# EAGLE library part ATTINY84A-AEGAEON (library Railstars)
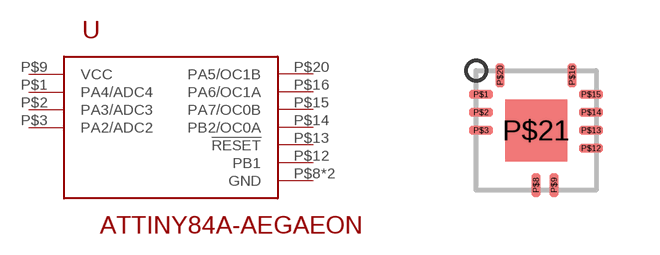
[diagram p36: symbol with the pads of VQFN-20-AEGAEON; footprint VQFN-20-AEGAEON]

Designator prefix -

## ATTINY84A-AEGAEON  [VQFN-20-AEGAEON]
P$1  PA4/ADC4
P$2  PA3/ADC3
P$3  PA2/ADC2
P$8  GND
P$9  VCC
P$12  PB1
P$13  !RESET
P$14  PB2/OC0A
P$15  PA7/OC0B
P$16  PA6/OC1A
P$20  PA5/OC1B
P$21  GND

## Footprint VQFN-20-AEGAEON (pad centres in mm)
smd 0.6 x 0.22: P$1 -1.375,0.9; P$2 -1.375,0.45; P$3 -1.375,0; P$12 1.375,-0.45; P$13 1.375,0; P$14 1.375,0.45; P$15 1.375,0.9
smd 0.22 x 0.6: P$8 0,-1.375; P$9 0.45,-1.375; P$16 0.9,1.375; P$20 -0.9,1.375
smd 1.55 x 1.55: P$21 0,0